# Altium schematic symbol library atmel-avr.SchLib: 1 symbol
Pins are listed as number, name and electrical type; pins without a type are passive.

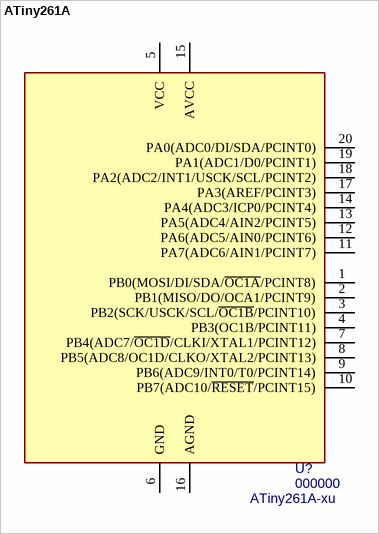
[diagram p0: symbol ATiny261A]

## ATiny261A
designator U?, comment 000000  value ATiny261A-xu
8-bit AVR Microcontroller  with 2/4/8K  Bytes In-System  Programmable  Flash; Package: TSSOP-20; PN: 000000; ExtraInfo: *
footprint TSSOP-20 (TSOP, 20-Leads, Body 6.6x4.5mm (max), Pitch 0.65mm, IPC Medium Density)
pins: 1 PB0(MOSI/DI/SDA/~{OC1A}/PCINT8) (hiz), 2 PB1(MISO/DO/OCA1/PCINT9) (hiz), 3 PB2(SCK/USCK/SCL/~{OC1B}/PCINT10) (hiz), 4 PB3(OC1B/PCINT11) (hiz), 5 VCC (power), 6 GND (power), 7 PB4(ADC7/~{OC1D}/CLKI/XTAL1/PCINT12) (hiz), 8 PB5(ADC8/OC1D/CLKO/XTAL2/PCINT13) (hiz), 9 PB6(ADC9/INT0/T0/PCINT14) (hiz), 10 PB7(ADC10/~{RESET}/PCINT15) (hiz), 11 PA7(ADC6/AIN1/PCINT7) (hiz), 12 PA6(ADC5/AIN0/PCINT6) (hiz), 13 PA5(ADC4/AIN2/PCINT5) (hiz), 14 PA4(ADC3/ICP0/PCINT4) (hiz), 15 AVCC (power), 16 AGND (power), 17 PA3(AREF/PCINT3) (hiz), 18 PA2(ADC2/INT1/USCK/SCL/PCINT2) (hiz), 19 PA1(ADC1/D0/PCINT1) (hiz), 20 PA0(ADC0/DI/SDA/PCINT0) (hiz)